# Altium schematic symbol library MOSFET DUAL P N TSSOP-8.Schlib: 1 symbol
Pins are listed as number, name and electrical type; pins without a type are passive.

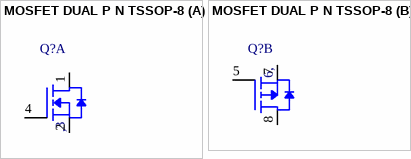
[diagram p0: symbol MOSFET DUAL P N TSSOP-8]

## MOSFET DUAL P N TSSOP-8
designator Q?
MOSFET, Dual
part A pins: 1 D, 2 S, 3 S, 4 D
part B pins: 5 G, 6 S, 7 S, 8 D
part A text: ,3
part B text: 6,